# EAGLE library part RJ-45_JACK (library 1dah)
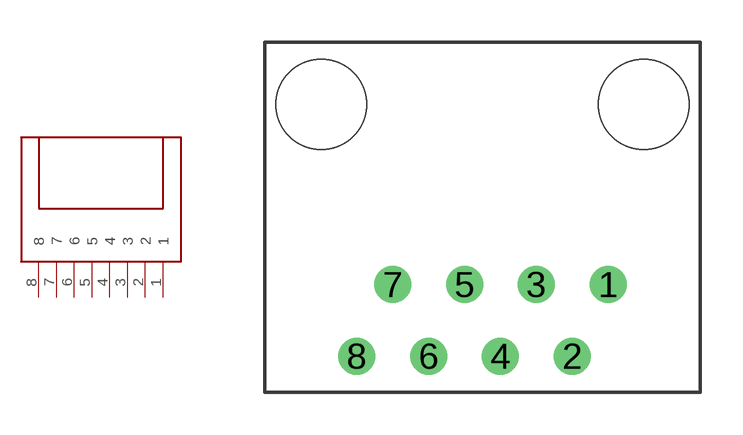
[diagram p45: symbol with the pads of 54602-908LF; footprint 54602-908LF]

Designator prefix -

## RJ-45_JACK  [54602-908LF]
1  1
2  2
3  3
4  4
5  5
6  6
7  7
8  8

## Footprint 54602-908LF (pad centres in mm)
drill 0.8: 1 4.445,-5.08; 2 3.175,-7.62; 3 1.905,-5.08; 4 0.635,-7.62; 5 -0.635,-5.08; 6 -1.905,-7.62; 7 -3.175,-5.08; 8 -4.445,-7.62
hole 3.2 at -5.7,1.3
hole 3.2 at 5.7,1.3